# EAGLE library part SI1143 (library pulse)
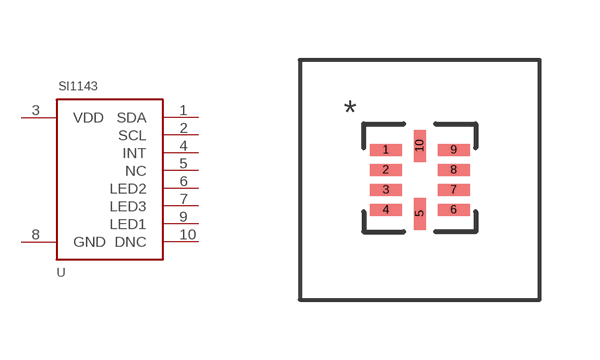
[diagram p0: symbol with the pads of SI1143; footprint SI1143]

Designator prefix -

## SI1143  [SI1143]
1  SDA
2  SCL
3  VDD  pwr
4  INT
5  NC
6  LED2
7  LED3
8  GND  pwr
9  LED1
10  DNC  nc

## Footprint SI1143 (pad centres in mm)
smd 0.8 x 0.3: 1 -0.85,0.75; 2 -0.85,0.25; 3 -0.85,-0.25; 4 -0.85,-0.75; 6 0.85,-0.75; 7 0.85,-0.25; 8 0.85,0.25; 9 0.85,0.75
smd 0.3 x 0.8: 5 0,-0.85; 10 0,0.85